# Altium footprint library 691305530002.PcbLib: 1 footprints
Each footprint in its own frame and in the unit in brackets; x right, y up, seen from the top. Pads: shape width x height; smd on the part's side, far side on the other; paste and mask are expansions set on the pad; w line width, h text height; cw(c..) or ccw(c..) is an arc to the next point about the centre after c.
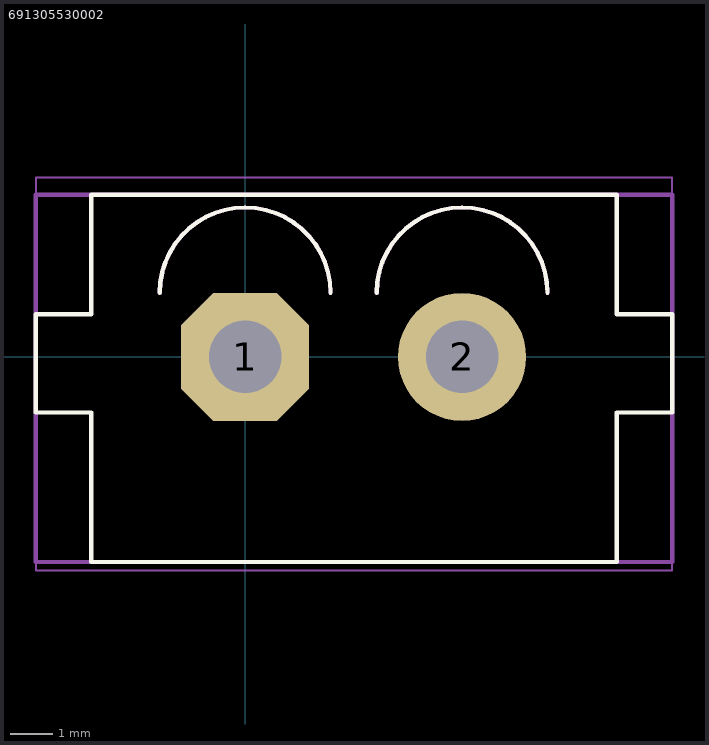
[diagram p0: the footprint, top view; thin cyan lines are the x and y axes]

## 691305530002 [mm]
pads (2):
  oct 3x3 hole 1.7 mask+0.05: 1(0,0)
  round 3 hole 1.7 mask+0.05: 2(5.08,0)
Top Overlay:
  lines w0.1: -2,1.5 cw(c0,1.5) 2,1.5 ; 3.08,1.5 cw(c5.08,1.5) 7.08,1.5 ; -4.9,-1.3 -4.9,1 -3.6,1 -3.6,3.8 8.7,3.8 8.7,1 10,1 10,-1.3 8.7,-1.3 8.7,-4.8 -3.6,-4.8 -3.6,-1.3 -4.9,-1.3
Top Assembly:
  lines w0.1: -2,1.5 cw(c0,1.5) 2,1.5 ; 3.08,1.5 cw(c5.08,1.5) 7.08,1.5 ; -4.9,-4.8 -4.9,3.8 10,3.8 10,-4.8 -4.9,-4.8
Top Courtyard:
  lines w0.05: -4.9,-5 10,-5 10,4.2 -4.9,4.2 -4.9,-5
3D body "Download_STEP_ 691305530002 (rev1).stp": height 12, standoff -4, extent -4.93,-4.825 10.03,3.775